# EAGLE library part ESP32 (library ESP32)
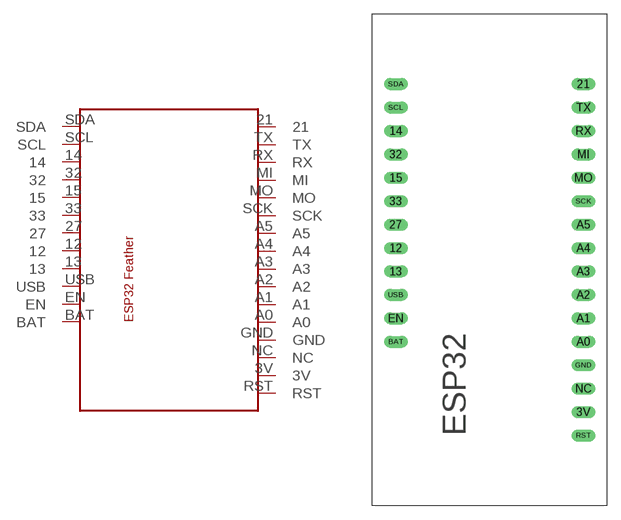
[diagram p0: symbol with the pads of ESP32; footprint ESP32]

Designator prefix S

## ESP32  [ESP32]
3V  3V
12  12
13  13
14  14
15  15
21  21
27  27
32  32
33  33
A0  A0
A1  A1
A2  A2
A3  A3
A4  A4
A5  A5
BAT  BAT
EN  EN
GND  GND
MI  MI
MO  MO
NC  NC
RST  RST
RX  RX
SCK  SCK
SCL  SCL
SDA  SDA
TX  TX
USB  USB

## Footprint ESP32 (pad centres in mm)
drill 0.8 long: 3V 0,-25.4; 12 -20.32,-7.62; 13 -20.32,-10.16; 14 -20.32,5.08; 15 -20.32,0; 21 0,10.16; 27 -20.32,-5.08; 32 -20.32,2.54; 33 -20.32,-2.54; A0 0,-17.78; A1 0,-15.24; A2 0,-12.7; A3 0,-10.16; A4 0,-7.62; A5 0,-5.08; BAT -20.32,-17.78; EN -20.32,-15.24; GND 0,-20.32; MI 0,2.54; MO 0,0; NC 0,-22.86; RST 0,-27.94; RX 0,5.08; SCK 0,-2.54; SCL -20.32,7.62; SDA -20.32,10.16; TX 0,7.62; USB -20.32,-12.7